# Altium footprint library STM32F103C8T6核心板_2020-09-11_10-32-26.PcbLib: 1 footprints
Each footprint in its own frame and in the unit in brackets; x right, y up, seen from the top. Pads: shape width x height; smd on the part's side, far side on the other; paste and mask are expansions set on the pad; w line width, h text height; cw(c..) or ccw(c..) is an arc to the next point about the centre after c.
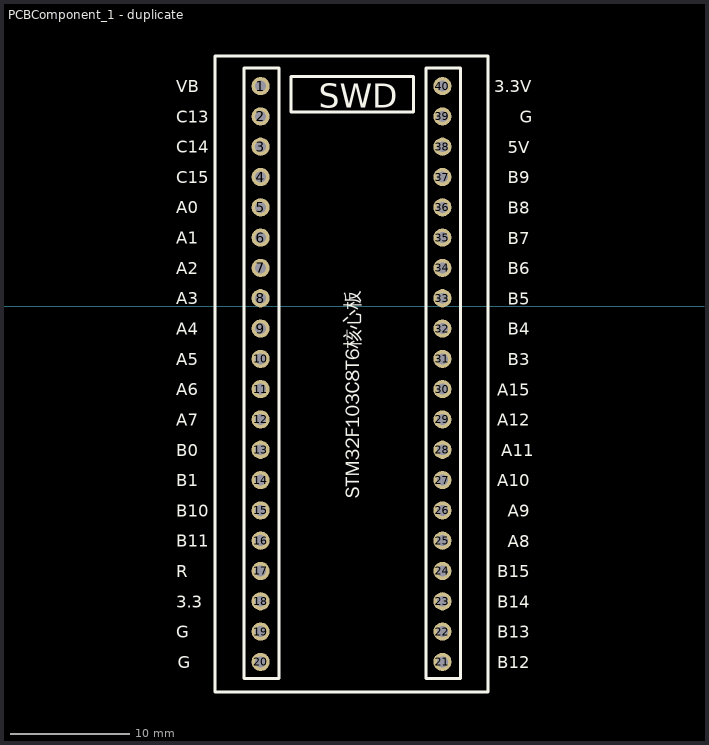
[diagram p0: the footprint, top view; thin cyan lines are the x and y axes]

## PCBComponent_1 - duplicate [mil]
pads (40):
  round 60 hole 36: 1(-1501.5,726) 2(-1501.5,626) 3(-1501.5,526) 4(-1501.5,426) 5(-1501.5,326) 6(-1501.5,226) 7(-1501.5,126) 8(-1501.5,26) 9(-1501.5,-74) 10(-1501.5,-174) 11(-1501.5,-274) 12(-1501.5,-374) 13(-1501.5,-474) 14(-1501.5,-574) 15(-1501.5,-674) 16(-1501.5,-774) 17(-1501.5,-874) 18(-1501.5,-974) 19(-1501.5,-1074) 20(-1501.5,-1174) 21(-901.5,-1174) 22(-901.5,-1074) 23(-901.5,-974) 24(-901.5,-874) 25(-901.5,-774) 26(-901.5,-674) 27(-901.5,-574) 28(-901.5,-474) 29(-901.5,-374) 30(-901.5,-274) 31(-901.5,-174) 32(-901.5,-74) 33(-901.5,26) 34(-901.5,126) 35(-901.5,226) 36(-901.5,326) 37(-901.5,426) 38(-901.5,526) 39(-901.5,626) 40(-901.5,726)
Top Overlay:
  lines w10: -1651.5,-1274 -751.5,-1274 -751.5,826 -1651.5,826 -1651.5,-1274 ; -1556.5,-1229 -1556.5,786 -1441.5,786 -1441.5,-1229 -1556.5,-1229 ; -1401.5,641 -1401.5,758.5 -996.5,758.5 -996.5,641 -1401.5,641 ; -956.5,-1229 -956.5,786 -841.5,786 -841.5,-1229 -956.5,-1229
  text "SWD" at -1310,655 h80
  text "G" at -1775,-1195 h40
  text "3.3" at -1780,-994.89 h40
  text "R" at -1780,-894.84 h40
  text "B11" at -1780,-794.79 h40
  text "B10" at -1780,-694.74 h40
  text "B1" at -1780,-594.68 h40
  text "B0" at -1780,-494.63 h40
  text "A7" at -1780,-394.58 h40
  text "A6" at -1780,-294.53 h40
  text "A5" at -1780,-194.47 h40
  text "A4" at -1780,-94.42 h40
  text "A3" at -1780,5.63 h40
  text "A2" at -1780,105.68 h40
  text "A1" at -1780,205.74 h40
  text "A0" at -1780,305.79 h40
  text "C15" at -1780,405.84 h40
  text "C14" at -1780,505.89 h40
  text "C13" at -1780,605.95 h40
  text "VB" at -1780,706 h40
  text "B12" at -720,-1195 h40
  text "B13" at -720,-1095 h40
  text "B14" at -720,-995 h40
  text "B15" at -720,-895 h40
  text "A8" at -686.68,-795 h40
  text "A9" at -686.68,-695 h40
  text "A10" at -720,-595 h40
  text "A11" at -706.67,-495 h40
  text "A12" at -720,-395 h40
  text "A15" at -720,-295 h40
  text "B3" at -686.68,-195 h40
  text "B4" at -686.68,-95 h40
  text "B5" at -686.68,5 h40
  text "B6" at -686.68,105 h40
  text "B7" at -686.68,205 h40
  text "B8" at -686.68,305 h40
  text "B9" at -686.68,405 h40
  text "5V" at -686.68,505 h40
  text "G" at -646.69,605 h40
  text "3.3V" at -730,705 h40
  text "STM32F103C8T6核心板" at -1160,-635 h80
  text "G" at -1780,-1094.95 h40